# Altium footprint library PcbLib1.PcbLib: 1 footprints
Each footprint in its own frame and in the unit in brackets; x right, y up, seen from the top. Pads: shape width x height; smd on the part's side, far side on the other; paste and mask are expansions set on the pad; w line width, h text height; cw(c..) or ccw(c..) is an arc to the next point about the centre after c.
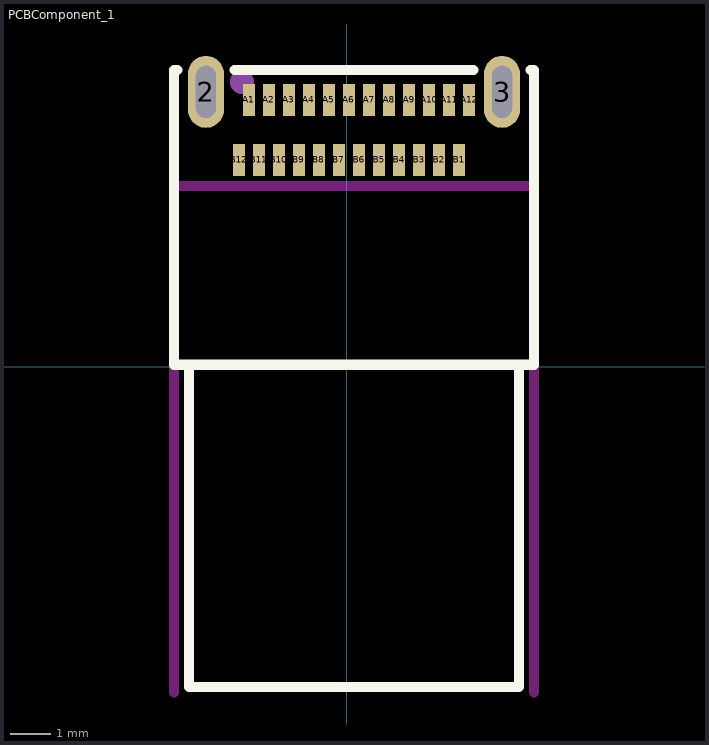
[diagram p0: the footprint, top view; thin cyan lines are the x and y axes]

## PCBComponent_1 [mm]
pads (26):
  oval 0.9x1.8 hole 0.5 slot 1.3 at 90 deg: 2(-3.518,6.872) 3(3.882,6.872)
  rect 0.3x0.8 smd: A1(-2.443,6.672) A2(-1.943,6.672) A3(-1.443,6.672) A4(-0.943,6.672) A5(-0.443,6.672) A6(0.057,6.672) A7(0.557,6.672) A8(1.057,6.672) A9(1.557,6.672) A10(2.057,6.672) A11(2.557,6.672) A12(3.057,6.672) B1(2.807,5.172) B2(2.307,5.172) B3(1.807,5.172) B4(1.307,5.172) B5(0.807,5.172) B6(0.307,5.172) B7(-0.193,5.172) B8(-0.693,5.172) B9(-1.193,5.172) B10(-1.693,5.172) B11(-2.193,5.172) B12(-2.693,5.172)
Top Overlay:
  lines w0.254: -4.234,7.419 -4.318,7.419 -4.318,0.053 4.682,0.053 4.682,7.419 4.598,7.419 ; -3.943,-0.002 -3.943,-8.002 4.307,-8.002 4.307,-0.002 ; -2.802,7.419 3.166,7.419
Top Paste:
  drawing of 26 lines, arcs and shapes, not listed
Keep-Out Layer:
  lines w0.254: -4.318,-8.128 -4.318,4.472 ; -4.268,4.522 4.632,4.522 ; 4.682,-8.128 4.682,4.472
Mechanical 15:
  circle w0.3: c-2.618,7.122 r0.15